# EAGLE library part BME280_MODULE (library BME280_Module)
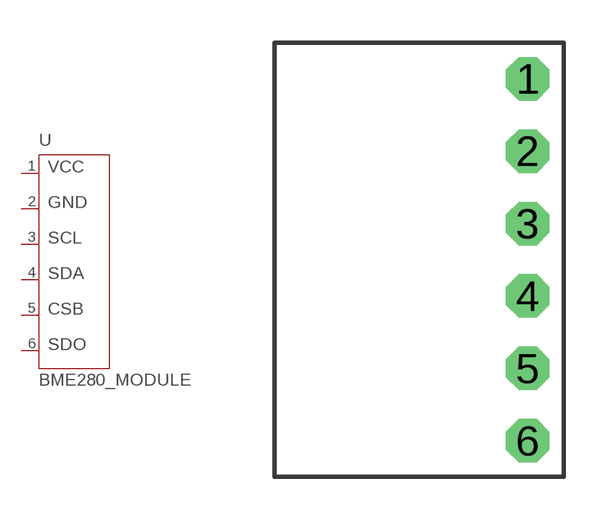
[diagram p0: symbol with the pads of BME280_FOOTPRINT; footprint BME280_FOOTPRINT]

Designator prefix -

## BME280_MODULE  [BME280_FOOTPRINT]
1  1
2  2
3  3
4  4
5  5
6  6

## Footprint BME280_FOOTPRINT (pad centres in mm)
drill 1.016 octagon: 1 3.81,6.35; 2 3.81,3.81; 3 3.81,1.27; 4 3.81,-1.27; 5 3.81,-3.81; 6 3.81,-6.35